# Altium footprint library WSM-BL241-ADA-008.PcbLib: 1 footprints
Each footprint in its own frame and in the unit in brackets; x right, y up, seen from the top. Pads: shape width x height; smd on the part's side, far side on the other; paste and mask are expansions set on the pad; w line width, h text height; cw(c..) or ccw(c..) is an arc to the next point about the centre after c.
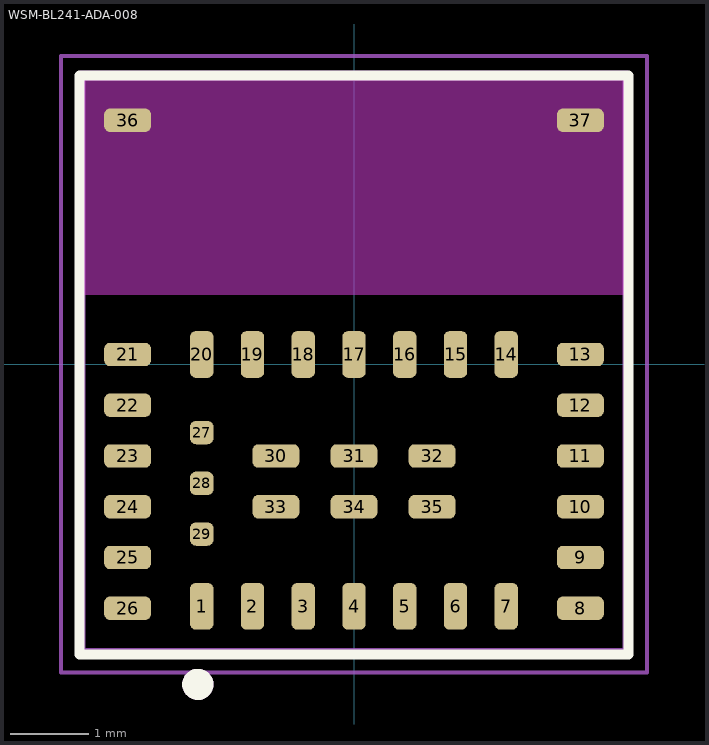
[diagram p0: the footprint, top view; thin cyan lines are the x and y axes]

## WSM-BL241-ADA-008 [mm]
pads (37):
  rrect50% 0.3x0.6 smd paste+0 mask+0.102: 1(-1.953,-3.101) 2(-1.303,-3.101) 3(-0.653,-3.101) 4(-0.003,-3.101) 5(0.647,-3.101) 6(1.297,-3.101) 7(1.947,-3.101) 14(1.947,0.124) 15(1.297,0.124) 16(0.647,0.124) 17(-0.003,0.124) 18(-0.653,0.124) 19(-1.303,0.124) 20(-1.953,0.124)
  rrect50% 0.6x0.3 smd paste+0 mask+0.102: 8(2.897,-3.126) 9(2.897,-2.476) 10(2.897,-1.826) 11(2.897,-1.176) 12(2.897,-0.526) 13(2.897,0.124) 21(-2.903,0.124) 22(-2.903,-0.526) 23(-2.903,-1.176) 24(-2.903,-1.826) 25(-2.903,-2.476) 26(-2.903,-3.126) 30(-1.003,-1.176) 31(-0.003,-1.176) 32(0.997,-1.176) 33(-1.003,-1.826) 34(-0.003,-1.826) 35(0.997,-1.826) 36(-2.903,3.124) 37(2.897,3.124)
  rrect50% 0.3x0.3 smd paste+0 mask+0.102: 27(-1.953,-0.876) 28(-1.953,-1.526) 29(-1.953,-2.176)
Top Overlay:
  circle w0.2: c-2.003,-4.101 r0.1
  lines w0.127: -3.518,-3.716 -3.518,3.699 3.512,3.699 3.512,-3.716 -3.518,-3.716
Keep-Out Layer:
  region: 3.497,0.889 -3.503,0.889 -3.503,3.699 3.497,3.699
  region: 3.497,0.889 -3.503,0.889 -3.503,3.699 3.497,3.699
Top 3D Body:
  circle w0.2: c-2.003,-4.101 r0.1
  lines w0.127: -3.503,-3.701 3.497,-3.701 3.497,3.699 -3.503,3.699 -3.503,-3.701
Top Courtyard:
  lines w0.05: -3.753,-3.951 3.747,-3.951 3.747,3.949 -3.753,3.949 -3.753,-3.951
3D body "step_temp.STEP": height 0.9, standoff 0, extent -3.503,-3.701 3.497,3.699